# EAGLE library part SD-HIROSE (library mastrogippo)
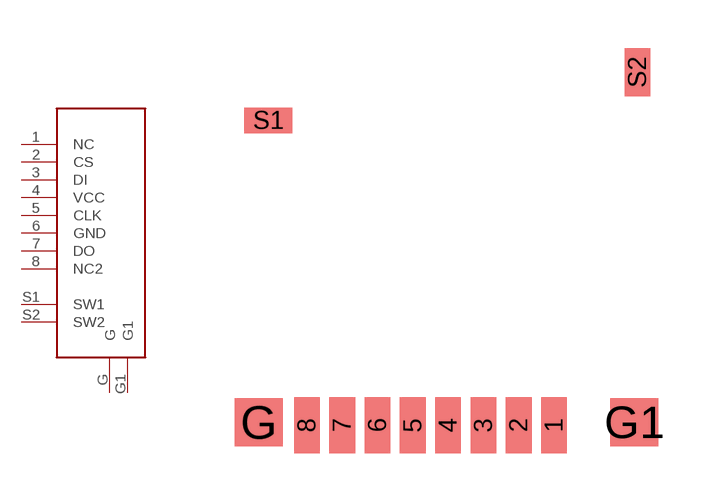
[diagram p0: symbol with the pads of SD-HIROSE; footprint SD-HIROSE]

Designator prefix -

## SD-HIROSE  [SD-HIROSE]
1  NC
2  CS
3  DI
4  VCC
5  CLK
6  GND
7  DO
8  NC2
G  G
G1  G1
S1  SW1
S2  SW2

## Footprint SD-HIROSE (pad centres in mm)
smd 0.8 x 1.75: 1 4.4,-5.5; 2 3.3,-5.5; 3 2.2,-5.5; 4 1.1,-5.5; 5 0,-5.5; 6 -1.1,-5.5; 7 -2.2,-5.5; 8 -3.3,-5.5
smd 1.5 x 1.5: G -4.8,-5.4; G1 6.9,-5.4
smd 1.5 x 0.8: S1 -4.5,4
smd 0.8 x 1.5: S2 7,5.5